# EAGLE library part HX711 (library LARS_409_MC)
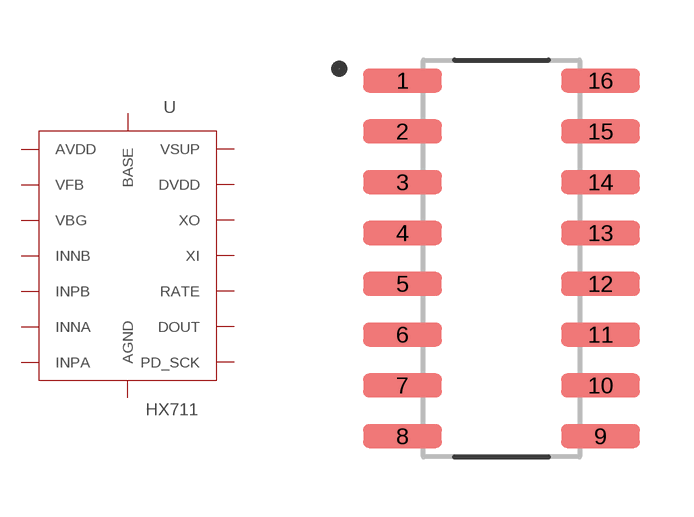
[diagram p32: symbol with the pads of SOIC-16; footprint SOIC-16]

Designator prefix U

## HX711SOIC-16  [SOIC-16]
1  VSUP
2  BASE
3  AVDD
4  VFB
5  AGND
6  VBG
7  INNA
8  INPA
9  INNB
10  INPB
11  PD_SCK
12  DOUT
13  XO
14  XI
15  RATE
16  DVDD

## Footprint SOIC-16 (pad centres in mm)
16-SOIC, 1.27 mm pitch, 6.00 mm span, 9.90 X 3.90 X 1.75 mm body 16-pin SOIC package with 1.27 mm pitch, 6.00 mm span with body size 9.90 X 3.90 X 1.75 mm
smd 1.97 x 0.6: 1 -2.475,4.445; 2 -2.475,3.175; 3 -2.475,1.905; 4 -2.475,0.635; 5 -2.475,-0.635; 6 -2.475,-1.905; 7 -2.475,-3.175; 8 -2.475,-4.445; 9 2.475,-4.445; 10 2.475,-3.175; 11 2.475,-1.905; 12 2.475,-0.635; 13 2.475,0.635; 14 2.475,1.905; 15 2.475,3.175; 16 2.475,4.445